# Altium schematic symbol library H1102NLT.SchLib: 1 symbol
Pins are listed as number, name and electrical type; pins without a type are passive.

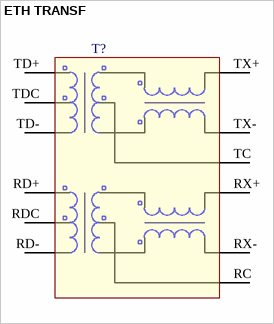
[diagram p0: symbol ETH TRANSF]

## ETH TRANSF
designator T?  (value not drawn)
footprint TRANSFORMATOR
pins: RC, RD+, RD-, RDC, RX+, RX-, TC, TD+, TD-, TDC, TX+, TX-